# Altium integrated library MMPQ3906.IntLib: 1 symbol
Pins are listed as number, name and electrical type; pins without a type are passive.

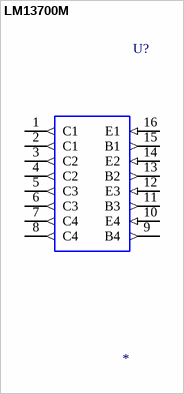
[diagram p0: symbol LM13700M]

## LM13700M
designator U?
Dual Operational Transconductance Amplifier with Linearizing Diodes and Buffers 16-SOIC 0 to 70; MP: LM13700M; MF: Texas Instruments; Price: None; Availability: Unavailable; Package: SOIC-16 Texas Instruments; SnapEDA_Link: https://www.snapeda.com/parts/LM13700M/Texas%20Instruments/view-part/?ref=snap; Value: *
footprint LM13700LM13700MLM13700LM13700MLM13700PrimaryLM13700
pins: 1 C1 (out), 2 C1 (out), 3 C2 (out), 4 C2 (out), 5 C3 (out), 6 C3 (out), 7 C4 (out), 8 C4 (out), 9 B4 (out), 10 E4 (in), 11 B3 (out), 12 E3 (in), 13 B2 (out), 14 E2 (in), 15 B1 (out), 16 E1 (in)